# Altium footprint library FUSEHOLDER_30A.PcbLib: 1 footprints
Each footprint in its own frame and in the unit in brackets; x right, y up, seen from the top. Pads: shape width x height; smd on the part's side, far side on the other; paste and mask are expansions set on the pad; w line width, h text height; cw(c..) or ccw(c..) is an arc to the next point about the centre after c.
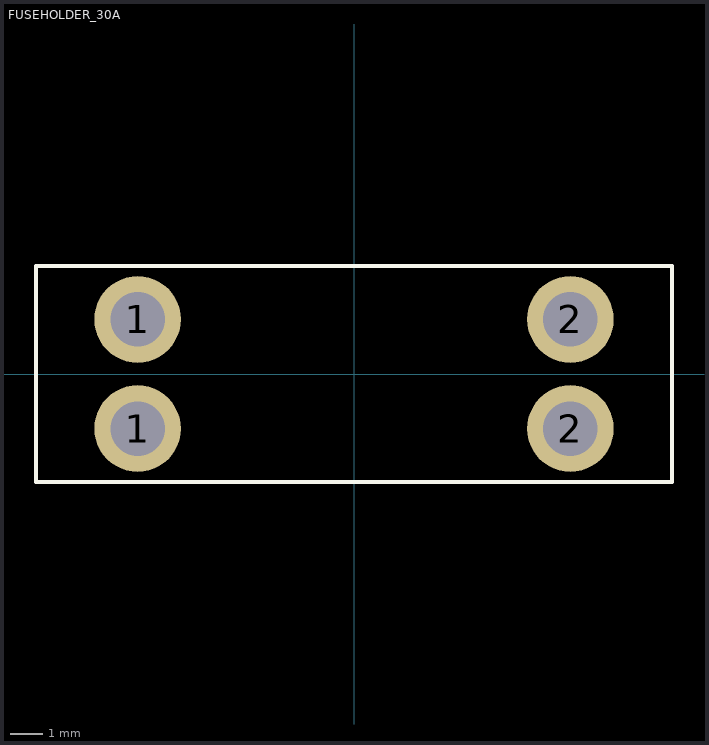
[diagram p0: the footprint, top view; thin cyan lines are the x and y axes]

## FUSEHOLDER_30A [mm]
height 0.7
pads (4):
  round 2.7 hole 1.7: 1(-6.735,-1.7) 1(-6.735,1.7) 2(6.735,-1.7) 2(6.735,1.7)
Top Overlay:
  lines w0.127: -9.905,-3.365 9.905,-3.365 9.905,3.365 -9.905,3.365 -9.905,-3.365
3D body "keystone-PN3557-15.STEP": height 7.39, standoff -2.77, extent -9.935,-3.338 9.877,3.393